# Altium schematic symbol library RES_1812.SchLib: 1 symbol
Pins are listed as number, name and electrical type; pins without a type are passive.

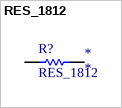
[diagram p0: symbol RES_1812]

## RES_1812
designator R?
Value: *; Tolerance: *
footprint RESC1812(4532)_N (Chip Resistor, Body 4.5x3.2mm, IPC Medium Density)
footprint RESC1812(4532)_N (Chip Resistor, Body 4.5x3.2mm, IPC Medium Density)
pins: 1, 2
1 alternate drawing of the same symbol